# Altium footprint library PcbLib3.PcbLib: 20 footprints (part 1 of 2)
Each footprint in its own frame and in the unit in brackets; x right, y up, seen from the top. Pads: shape width x height; smd on the part's side, far side on the other; paste and mask are expansions set on the pad; w line width, h text height; cw(c..) or ccw(c..) is an arc to the next point about the centre after c.
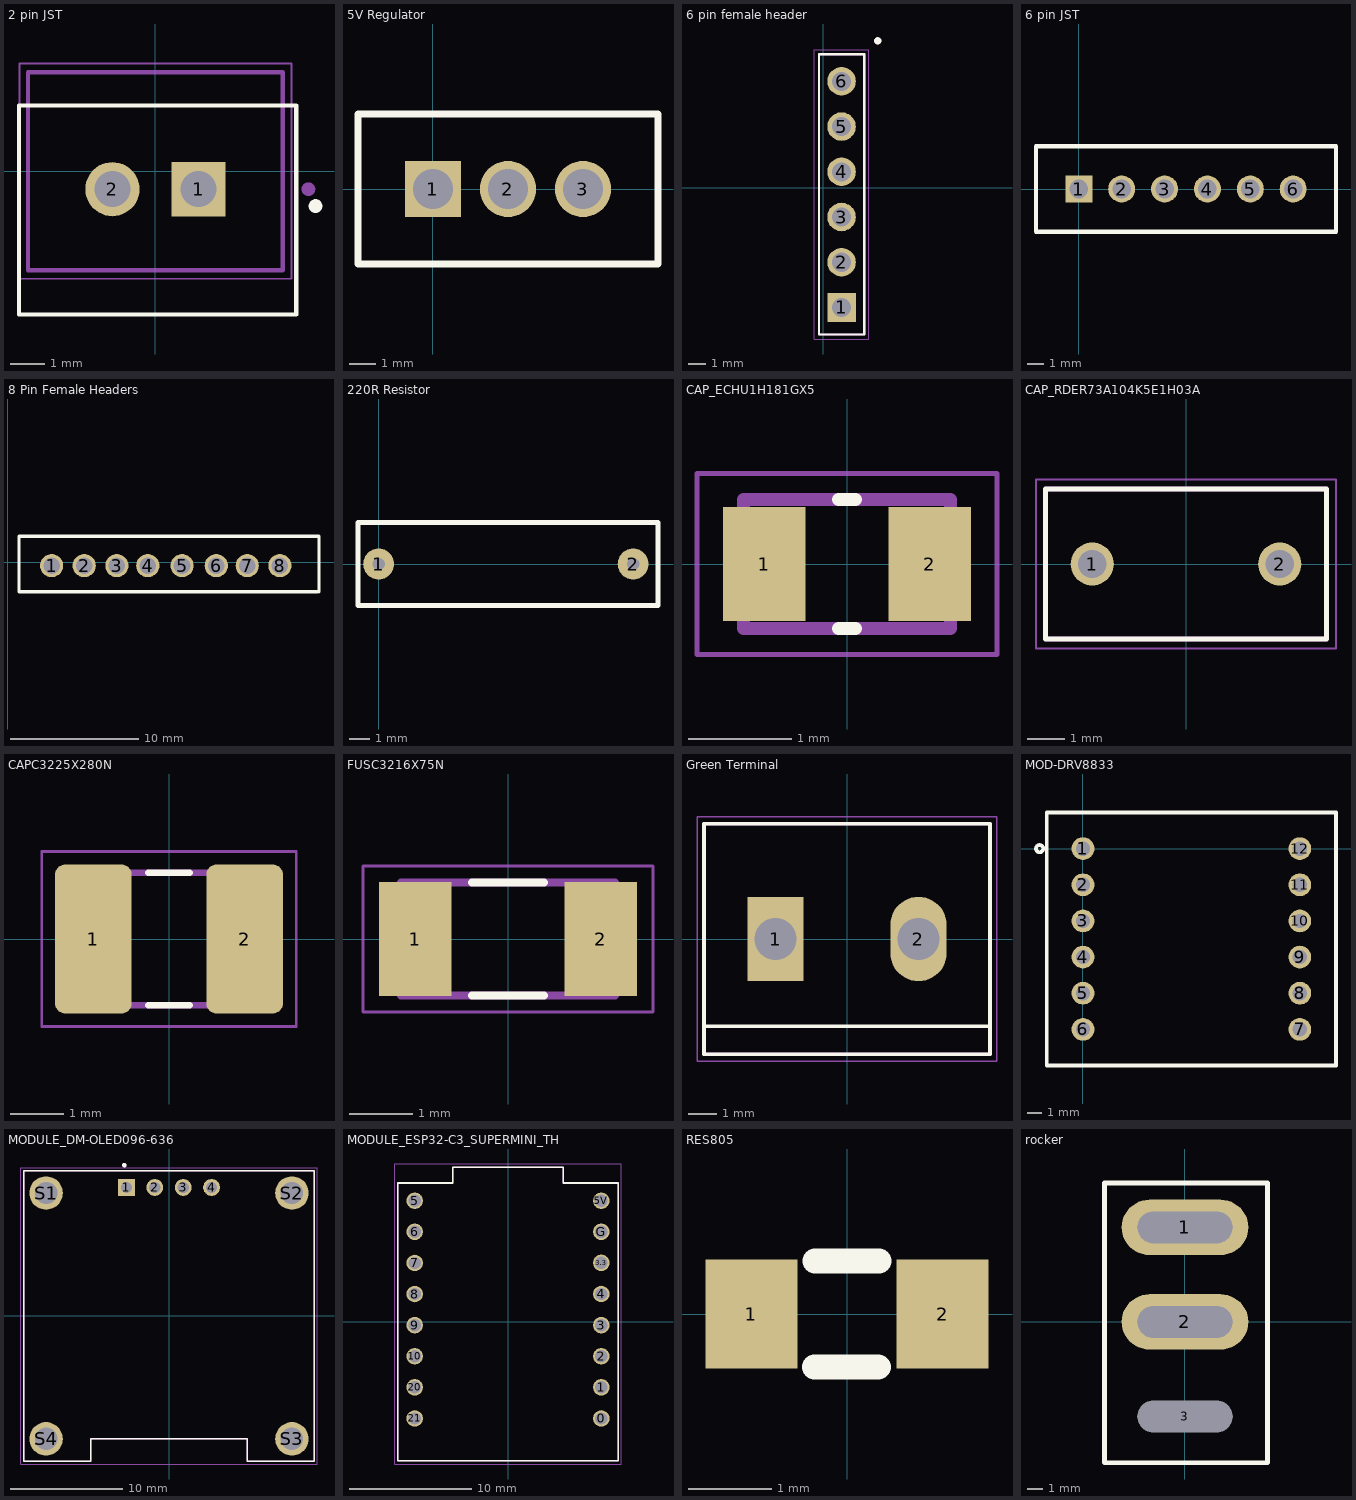
[diagram p0: the footprints below, top view; thin cyan lines are the x and y axes]

## 2 pin JST [mm]
height 7
pads (2):
  rect 1.575x1.575 hole 1.05: 1(1.25,-0.525)
  round 1.575 hole 1.05: 2(-1.25,-0.525)
Top Overlay:
  circle w0.2: c4.648,-1.016 r0.1
  lines w0.127: -3.962,-4.166 -1.728,-4.166 1.829,-4.166 4.089,-4.166 4.089,1.905 -3.962,1.905 -3.962,-4.166
Mechanical 13:
  circle w0.2: c4.44,-0.525 r0.1
  lines w0.127: -3.7,-2.875 -3.7,2.875 3.7,2.875 3.7,-2.875 -3.7,-2.875
Mechanical 15:
  lines w0.05: -3.95,-3.125 3.95,-3.125 3.95,3.125 -3.95,3.125 -3.95,-3.125
3D body "CONNECTOR WHITE JST XH 2 PIN - 2,54 mm.stp": height 7, standoff -3, extent -3.835,-3.957 3.965,1.773

## 5V Regulator [mm]
pads (3):
  rect 2.1x2.1 / inner round 1.524 / far side rect 2.1x2.1 hole 1.5: 1(0,0)
  round 2.1 / inner round 1.9 / far side round 2.1 hole 1.5: 2(2.8,0)
  round 2.1 / inner round 1.524 / far side round 2.1 hole 1.5: 3(5.6,0)
Top Overlay:
  lines w0.254: -2.8,-2.8 8.4,-2.8 8.4,2.8 -2.8,2.8 -2.8,-2.8
3D body "7508.STEP": height 19.45, standoff -8.75, extent -2.27,-1.96 7.73,2.05

## 6 pin female header [mm]
height 8.5
pads (6):
  rect 1.605x1.605 / inner round 1.605 / far side rect 1.605x1.605 hole 1.07: 1(1.016,-6.731)
  round 1.605 hole 1.07: 2(1.016,-4.191) 3(1.016,-1.651) 4(1.016,0.889) 5(1.016,3.429) 6(1.016,5.969)
Top Overlay:
  circle w0.2: c3.048,8.246 r0.1
  lines w0.127: -0.254,-8.251 -0.254,7.489 2.286,7.489 2.286,-8.251 -0.254,-8.251
Mechanical 13:
  circle w0.2: c3.048,8.246 r0.1
  lines w0.127: -0.254,-8.251 -0.254,7.489 2.286,7.489 2.286,-8.251 -0.254,-8.251
Mechanical 15:
  lines w0.05: -0.504,-8.501 -0.504,7.739 2.536,7.739 2.536,-8.501 -0.504,-8.501
3D body "VL53L0X.step": height 10.38, standoff -0.24, extent 0.715,-12.716 13.411,12.462

## 6 pin JST [mm]
pads (6):
  rect 1.6x1.6 hole 1.1: 1(0,0)
  round 1.6 hole 1.1: 2(2.54,0) 3(5.08,0) 4(7.62,0) 5(10.16,0) 6(12.7,0)
Top Overlay:
  lines w0.254: -2.54,-2.54 -2.54,2.54 15.24,2.54 15.24,-2.54 -2.54,-2.54
3D body "CONNECTOR WHITE JST XH 6 PIN - 2,54 mm.stp": height 7, standoff -3, extent -2.681,-3.383 15.279,2.347

## 8 Pin Female Headers [mil]
pads (8):
  round 71 hole 51: 1(135,-10) 2(235,-10) 3(335,-10) 4(430,-10) 5(535,-10) 6(640,-10) 7(735,-10) 8(835,-10)
Top Overlay:
  lines w10: 950,-90 35,-90 35,80 955,80 955,-90
3D body "MPU6050_pin.stp": height 242.13, standoff -234.65, extent 70.39,-66.02 869.61,556.02

## 220R Resistor [mm]
height 1.8
pads (2):
  round 1.5 / inner round 1.524 / far side round 1.5 hole 0.6: 1(0,0) 2(12.3,0)
Top Overlay:
  lines w0.254: -1,-2 -1,-0.925 -1,-0.388 -1,0.687 -1,1.225 -1,2 13.5,2 13.5,-2 -1,-2
3D body "CFR-50JB-52-120R--3DModel-STEP-269445.STEP": height 3.29, standoff -21.35, extent -0.25,-1.675 12.55,1.625

## CAP_ECHU1H181GX5 [mm]
height 0.9
pads (2):
  rect 0.8x1.1 smd: 1(-0.8,0) 2(0.8,0)
Top Overlay:
  lines w0.127: -0.08,-0.625 0.08,-0.625 ; -0.08,0.625 0.08,0.625
Mechanical 13:
  lines w0.127: -1,-0.625 1,-0.625 1,0.625 -1,0.625 -1,-0.625
Mechanical 15:
  lines w0.05: -1.45,-0.875 1.45,-0.875 1.45,0.875 -1.45,0.875 -1.45,-0.875
3D body "step_temp.STEP": height 0.9, standoff 0, extent -1,-0.625 1,0.625

## CAP_RDER73A104K5E1H03A [mm]
pads (2):
  round 1.15 hole 0.75: 1(-2.5,0) 2(2.5,0)
Top Overlay:
  lines w0.127: -3.75,-2 -3.75,2 3.75,2 3.75,-2 -3.75,-2
Mechanical 13:
  lines w0.127: -3.75,-2 3.75,-2 3.75,2 -3.75,2 -3.75,-2
Mechanical 15:
  lines w0.05: -4,-2.25 4,-2.25 4,2.25 -4,2.25 -4,-2.25
3D body "RDER73A104K5E1H03A.STEP": height 9.5, standoff -23.5, extent -3.75,-2 3.75,2

## CAPC3225X280N [mm]
pads (2):
  rrect25% 1.45x2.81 smd paste+0 mask+0.102: 1(-1.43,0) 2(1.43,0)
Top Overlay:
  lines w0.127: -0.39,-1.25 0.39,-1.25 ; -0.39,1.25 0.39,1.25
Mechanical 13:
  lines w0.127: -1.6,-1.25 1.6,-1.25 1.6,1.25 -1.6,1.25 -1.6,-1.25
Mechanical 15:
  lines w0.05: -2.405,-1.655 2.405,-1.655 2.405,1.655 -2.405,1.655 -2.405,-1.655
3D body "step_temp.STEP": height 2.8, standoff 0, extent -1.6,-1.25 1.6,1.25

## FUSC3216X75N [mm]
height 0.75
pads (2):
  rect 1.16x1.82 smd: 1(-1.475,0) 2(1.475,0)
Top Overlay:
  lines w0.127: -0.57,-0.9 0.57,-0.9 ; -0.57,0.9 0.57,0.9
Mechanical 13:
  lines w0.127: -1.7,-0.9 1.7,-0.9 1.7,0.9 -1.7,0.9 -1.7,-0.9
Mechanical 15:
  lines w0.05: -2.308,-1.16 2.308,-1.16 2.308,1.16 -2.308,1.16 -2.308,-1.16
3D body "step_temp.STEP": height 0.75, standoff 0, extent -1.6,-0.8 1.6,0.8

## Green Terminal [mm]
pads (2):
  rect 2x3 hole 1.5: 1(-2.54,0)
  oval 2x3 hole 1.5: 2(2.54,0)
Top Overlay:
  lines w0.127: -5.08,-3.1 -5.08,-4.1 5.08,-4.1 5.08,-3.1 ; -5.08,-3.1 -5.08,4.1 5.08,4.1 5.08,-3.1 ; -5.08,-3.1 5.08,-3.1
Mechanical 13:
  circle w0.2: c-2.54,-1.27 r0.1
  lines w0.127: -5.08,-4.1 5.08,-4.1 5.08,4.1 -5.08,4.1 -5.08,-4.1
Mechanical 15:
  lines w0.05: -5.33,-4.35 5.33,-4.35 5.33,4.35 -5.33,4.35 -5.33,-4.35
3D body "step_temp.STEP": height 10, standoff -3.5, extent -5.68,-4.1 5.08,4.1

## MOD-DRV8833 [mm]
pads (12):
  round 1.6 hole 1: 1(0,0) 2(0,-2.54) 3(0,-5.08) 4(0,-7.62) 5(0,-10.16) 6(0,-12.7) 7(15.24,-12.7) 8(15.24,-10.16) 9(15.24,-7.62) 10(15.24,-5.08) 11(15.24,-2.54) 12(15.24,0)
Top Overlay:
  circle w0.254: c-3.048,0 r0.254
  lines w0.254: -2.54,-15.24 -2.54,2.54 17.78,2.54 17.78,-15.24 -2.54,-15.24
3D body "Modulo_DRV8833_A.stp": height 5.94, standoff -6.06, extent -1.68,-14.725 16.92,2.025

## MODULE_DM-OLED096-636 [mm]
height 11.3
pads (8):
  rect 1.508x1.508 / inner round 1.508 / far side rect 1.508x1.508 hole 1: 1(-3.81,11.5)
  round 1.508 hole 1: 2(-1.27,11.5) 3(1.27,11.5) 4(3.81,11.5)
  round 3 hole 2: S1(-11,11) S2(11,11) S3(11,-11) S4(-11,-11)
Top Overlay:
  circle w0.2: c-4,13.5 r0.1
  lines w0.127: -13,-13 -7,-13 -7,-11 7,-11 7,-13 13,-13 13,13 -13,13 -13,-13
Mechanical 13:
  circle w0.2: c-4,13.5 r0.1
  lines w0.127: -13,-13 -7,-13 -7,-11 7,-11 7,-13 13,-13 13,13 -13,13 -13,-13
Mechanical 15:
  lines w0.05: -13.25,-13.25 13.25,-13.25 13.25,13.25 -13.25,13.25 -13.25,-13.25
3D body "step_temp.STEP": height 5.66, standoff -5.64, extent -13,-13 13,13

## MODULE_ESP32-C3_SUPERMINI_TH [mm]
pads (16):
  round 1.348 hole 1: 0(7.62,-7.88) 1(7.62,-5.34) 2(7.62,-2.8) 3(7.62,-0.26) 3.3(7.62,4.826) 4(7.62,2.286) 5(-7.62,9.9) 5V(7.62,9.9) 6(-7.62,7.36) 7(-7.62,4.82) 8(-7.62,2.28) 9(-7.62,-0.26) 10(-7.62,-2.8) 20(-7.62,-5.34) 21(-7.62,-7.88) G(7.62,7.36)
Top Overlay:
  lines w0.127: -9,-11.35 9,-11.35 9,11.35 4.5,11.35 4.5,12.65 -4.5,12.65 -4.5,11.35 -9,11.35 -9,-11.35
Mechanical 13:
  lines w0.127: -9,-11.35 9,-11.35 9,11.35 4.5,11.35 4.5,12.65 -4.5,12.65 -4.5,11.35 -9,11.35 -9,-11.35
Mechanical 15:
  lines w0.05: -9.25,-11.6 9.25,-11.6 9.25,12.9 -9.25,12.9 -9.25,-11.6
3D body "8pins.step": height 2.54, standoff -9, extent -8.85,-9.124 -6.35,11.156
3D body "8pins.step": height 2.54, standoff -9, extent 6.37,-9.144 8.87,11.136
3D body "step_temp.STEP": height 4.16, standoff 0, extent -9,-11.35 9,12.65

## RES805 [mm]
pads (2):
  rect 1.1x1.3 smd: 1(-1.143,0) 2(1.143,0)
Top Overlay:
  lines w0.3: -0.388,-0.635 0.374,-0.635 ; -0.381,0.635 0.381,0.635
3D body "SMD_0805.STEP": height 0.48, standoff -0.02, extent -1,-0.6 1,0.6

## rocker [mm]
pads (3):
  oval 8x3.5 hole 2 slot 6 at 0 deg: 1(0,5.969) 2(0,0)
  oval 5x1 hole 2 slot 6 at 0 deg: 3(0,-5.969)
Top Overlay:
  lines w0.3: -5.08,-8.89 5.207,-8.89 5.207,8.763 -5.08,8.763 -5.08,-8.89
Top Designator:
  text ".Designator" at -3.999,-0.267 h0.8
3D body "RockerSwitch.STEP": height 16.8, standoff -8, extent -7.4,-10.5 7.4,10.5